# Altium schematic symbol library kmilo17pet-NSC_MiscPower.SchLib: 1552 symbols (part 32 of 43)
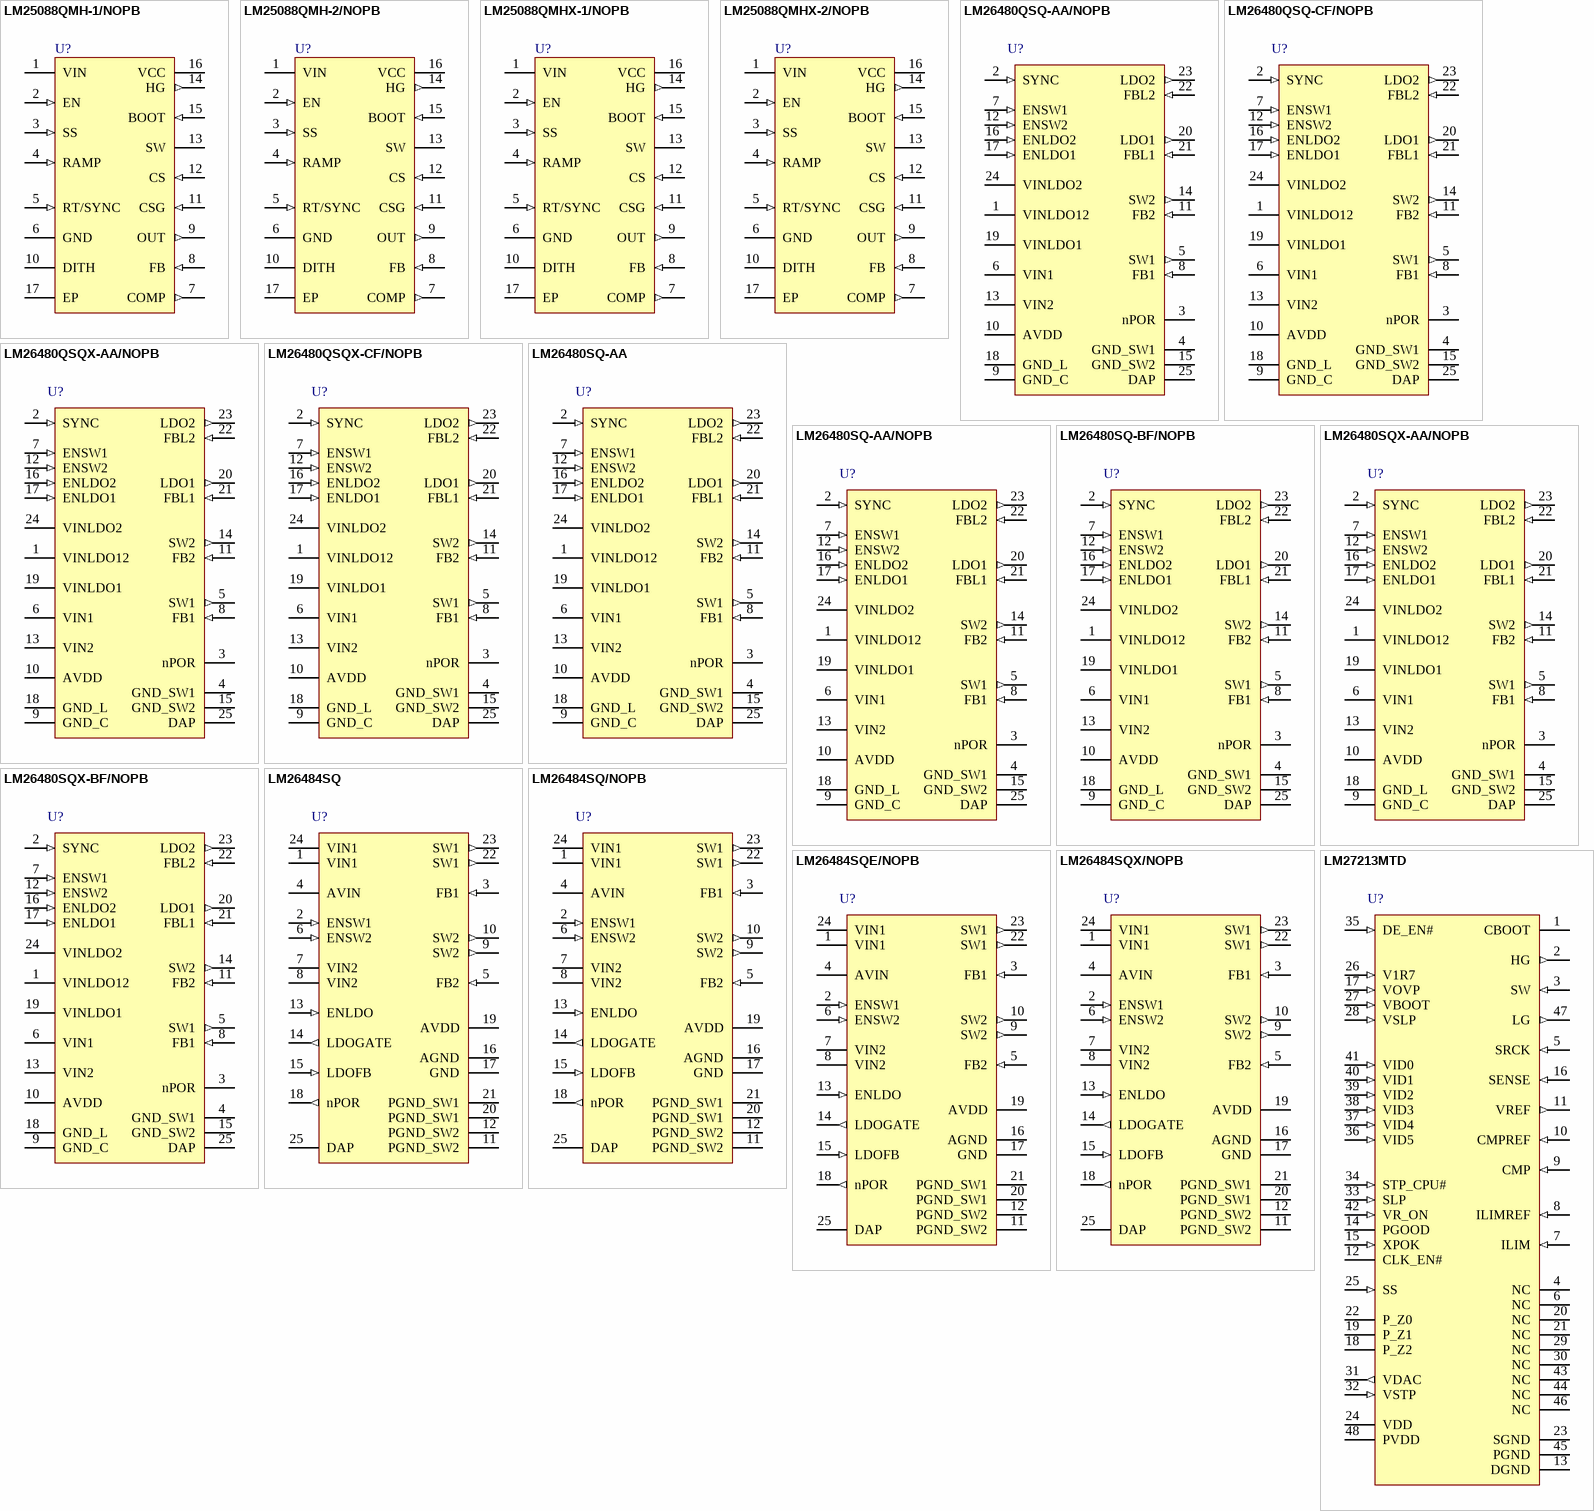
[diagram p88: symbols LM25088QMH-1/NOPB to LM27213MTD]

## LM26480QSQX-CF/NOPB
designator U?
Externally Programmable Dual High-Current Step-Down DC/DC and Dual Linear Regulators, 24-pin LLP, 4500 Reel, Pb-Free; PartNumber: LM26480QSQX-CF/NOPB; Manufacturer: National Semiconductor; PackageTopMarking: NS*UZXYTT*26480CF; PowerWise: N; CompType: MiscPower; High-Reliability: Y; DatasheetVersion: Aug-2011; PackageVersion: revB, Aug-2003; PackageReference: SQA24A; PackageDescription: LLP, Plastic, Quad, 4 x 4 x 0.8mm Body, 24 Lead, 0.5mm Pitch, No Pullback; RoHS: Y; PinCount: 24; Code_JEDEC: MO-220-WGGD-6; ComponentLink1Description: Manufacturer URL; ComponentLink1URL: http://www.national.com/; ComponentLink2Description: LM26480 Datasheet; ComponentLink2URL: http://www.national.com/ds/LM/LM26480.pdf; ComponentLink3Description: LM26480 Web Page; ComponentLink3URL: http://www.national.com/pf/LM/LM26480.html; ComponentLink4Description: SQA24A Package Page; ComponentLink4URL: http://www.national.com/packaging/folders/sqa24a.html
footprint SQA24A (QFN, 24-Leads, Body 4x4mm, Pitch 0.5mm, Thermal Pad 2.7x2.7mm, NSC Recommended)
pins: 1 VINLDO12 (power) "Analog Power for Internal Functions (VREF, BIAS, I2C, Logic)", 2 SYNC (in) "Frequency Synchronization pin.", 3 nPOR (oc) "nPOR Power on reset pin for both Buck1 and Buck 2.", 4 GND_SW1 (power) "Buck1 NMOS Power Ground", 5 SW1 (out) "Buck1 switcher output pin", 6 VIN1 (power) "Power in from either DC source or Battery to Buck1", 7 ENSW1 (in) "Enable Pin for Buck1 switcher, a logic HIGH enables Buck1. Pin cannot be left floating.", 8 FB1 (in) "Buck1 input feedback terminal", 9 GND_C (power) "Non-switching core ground pin", 10 AVDD (power) "Analog Power for Buck converters", 11 FB2 (in) "Buck2 input feedback terminal", 12 ENSW2 (in) "Enable Pin for Buck2 switcher, a logic HIGH enables Buck2. Pin cannot be left floating.", 13 VIN2 (power) "Power in from either DC source or Battery to Buck2", 14 SW2 (out) "Buck2 switcher output pin", 15 GND_SW2 (power) "Buck2 NMOS", 16 ENLDO2 (in) "LDO2 enable pin, a logic HIGH enables LDO2. Pin cannot be left floating.", 17 ENLDO1 (in) "LDO1 enable pin, a logic HIGH enables LDO1. Pin cannot be left floating.", 18 GND_L (power) "LDO ground", 19 VINLDO1 (power) "Power in from either DC source or battery to LDO1", 20 LDO1 (out) "LDO1 Output", 21 FBL1 (in) "LDO1 Feedback Terminal", 22 FBL2 (in) "LDO2 Feedback Terminal", 23 LDO2 (out) "LDO Output", 24 VINLDO2 (power) "Power in from either DC source or battery to LDO2.", 25 DAP (power)

## LM26480SQ-AA
designator U?
Externally Programmable Dual High-Current Step-Down DC/DC and Dual Linear Regulators, 24-pin LLP; PartNumber: LM26480SQ-AA; Manufacturer: National Semiconductor; PackageTopMarking: NS*UZXYTT*26480AA; PowerWise: N; CompType: MiscPower; High-Reliability: Y; DatasheetVersion: Aug-2011; PackageVersion: revB, Aug-2003; PackageReference: SQA24A; PackageDescription: LLP, Plastic, Quad, 4 x 4 x 0.8mm Body, 24 Lead, 0.5mm Pitch, No Pullback; RoHS: Y; PinCount: 24; Code_JEDEC: MO-220-WGGD-6; ComponentLink1Description: Manufacturer URL; ComponentLink1URL: http://www.national.com/; ComponentLink2Description: LM26480 Datasheet; ComponentLink2URL: http://www.national.com/ds/LM/LM26480.pdf; ComponentLink3Description: LM26480 Web Page; ComponentLink3URL: http://www.national.com/pf/LM/LM26480.html; ComponentLink4Description: SQA24A Package Page; ComponentLink4URL: http://www.national.com/packaging/folders/sqa24a.html
footprint SQA24A (QFN, 24-Leads, Body 4x4mm, Pitch 0.5mm, Thermal Pad 2.7x2.7mm, NSC Recommended)
pins: 1 VINLDO12 (power) "Analog Power for Internal Functions (VREF, BIAS, I2C, Logic)", 2 SYNC (in) "Frequency Synchronization pin.", 3 nPOR (oc) "nPOR Power on reset pin for both Buck1 and Buck 2.", 4 GND_SW1 (power) "Buck1 NMOS Power Ground", 5 SW1 (out) "Buck1 switcher output pin", 6 VIN1 (power) "Power in from either DC source or Battery to Buck1", 7 ENSW1 (in) "Enable Pin for Buck1 switcher, a logic HIGH enables Buck1. Pin cannot be left floating.", 8 FB1 (in) "Buck1 input feedback terminal", 9 GND_C (power) "Non-switching core ground pin", 10 AVDD (power) "Analog Power for Buck converters", 11 FB2 (in) "Buck2 input feedback terminal", 12 ENSW2 (in) "Enable Pin for Buck2 switcher, a logic HIGH enables Buck2. Pin cannot be left floating.", 13 VIN2 (power) "Power in from either DC source or Battery to Buck2", 14 SW2 (out) "Buck2 switcher output pin", 15 GND_SW2 (power) "Buck2 NMOS", 16 ENLDO2 (in) "LDO2 enable pin, a logic HIGH enables LDO2. Pin cannot be left floating.", 17 ENLDO1 (in) "LDO1 enable pin, a logic HIGH enables LDO1. Pin cannot be left floating.", 18 GND_L (power) "LDO ground", 19 VINLDO1 (power) "Power in from either DC source or battery to LDO1", 20 LDO1 (out) "LDO1 Output", 21 FBL1 (in) "LDO1 Feedback Terminal", 22 FBL2 (in) "LDO2 Feedback Terminal", 23 LDO2 (out) "LDO Output", 24 VINLDO2 (power) "Power in from either DC source or battery to LDO2.", 25 DAP (power)

## LM26480SQ-AA/NOPB
designator U?
Externally Programmable Dual High-Current Step-Down DC/DC and Dual Linear Regulators, 24-pin LLP, Pb-Free; PartNumber: LM26480SQ-AA/NOPB; Manufacturer: National Semiconductor; PackageTopMarking: NS*UZXYTT*26480AA; PowerWise: N; CompType: MiscPower; High-Reliability: Y; DatasheetVersion: Aug-2011; PackageVersion: revB, Aug-2003; PackageReference: SQA24A; PackageDescription: LLP, Plastic, Quad, 4 x 4 x 0.8mm Body, 24 Lead, 0.5mm Pitch, No Pullback; RoHS: Y; PinCount: 24; Code_JEDEC: MO-220-WGGD-6; ComponentLink1Description: Manufacturer URL; ComponentLink1URL: http://www.national.com/; ComponentLink2Description: LM26480 Datasheet; ComponentLink2URL: http://www.national.com/ds/LM/LM26480.pdf; ComponentLink3Description: LM26480 Web Page; ComponentLink3URL: http://www.national.com/pf/LM/LM26480.html; ComponentLink4Description: SQA24A Package Page; ComponentLink4URL: http://www.national.com/packaging/folders/sqa24a.html
footprint SQA24A (QFN, 24-Leads, Body 4x4mm, Pitch 0.5mm, Thermal Pad 2.7x2.7mm, NSC Recommended)
pins: 1 VINLDO12 (power) "Analog Power for Internal Functions (VREF, BIAS, I2C, Logic)", 2 SYNC (in) "Frequency Synchronization pin.", 3 nPOR (oc) "nPOR Power on reset pin for both Buck1 and Buck 2.", 4 GND_SW1 (power) "Buck1 NMOS Power Ground", 5 SW1 (out) "Buck1 switcher output pin", 6 VIN1 (power) "Power in from either DC source or Battery to Buck1", 7 ENSW1 (in) "Enable Pin for Buck1 switcher, a logic HIGH enables Buck1. Pin cannot be left floating.", 8 FB1 (in) "Buck1 input feedback terminal", 9 GND_C (power) "Non-switching core ground pin", 10 AVDD (power) "Analog Power for Buck converters", 11 FB2 (in) "Buck2 input feedback terminal", 12 ENSW2 (in) "Enable Pin for Buck2 switcher, a logic HIGH enables Buck2. Pin cannot be left floating.", 13 VIN2 (power) "Power in from either DC source or Battery to Buck2", 14 SW2 (out) "Buck2 switcher output pin", 15 GND_SW2 (power) "Buck2 NMOS", 16 ENLDO2 (in) "LDO2 enable pin, a logic HIGH enables LDO2. Pin cannot be left floating.", 17 ENLDO1 (in) "LDO1 enable pin, a logic HIGH enables LDO1. Pin cannot be left floating.", 18 GND_L (power) "LDO ground", 19 VINLDO1 (power) "Power in from either DC source or battery to LDO1", 20 LDO1 (out) "LDO1 Output", 21 FBL1 (in) "LDO1 Feedback Terminal", 22 FBL2 (in) "LDO2 Feedback Terminal", 23 LDO2 (out) "LDO Output", 24 VINLDO2 (power) "Power in from either DC source or battery to LDO2.", 25 DAP (power)

## LM26480SQ-BF/NOPB
designator U?
Externally Programmable Dual High-Current Step-Down DC/DC and Dual Linear Regulators, 24-pin LLP; PartNumber: LM26480SQ-BF/NOPB; Manufacturer: National Semiconductor; PackageTopMarking: NS*UZXYTT*26480BF; PowerWise: N; CompType: MiscPower; High-Reliability: Y; DatasheetVersion: Aug-2011; PackageVersion: revB, Aug-2003; PackageReference: SQA24A; PackageDescription: LLP, Plastic, Quad, 4 x 4 x 0.8mm Body, 24 Lead, 0.5mm Pitch, No Pullback; RoHS: Y; PinCount: 24; Code_JEDEC: MO-220-WGGD-6; ComponentLink1Description: Manufacturer URL; ComponentLink1URL: http://www.national.com/; ComponentLink2Description: LM26480 Datasheet; ComponentLink2URL: http://www.national.com/ds/LM/LM26480.pdf; ComponentLink3Description: LM26480 Web Page; ComponentLink3URL: http://www.national.com/pf/LM/LM26480.html; ComponentLink4Description: SQA24A Package Page; ComponentLink4URL: http://www.national.com/packaging/folders/sqa24a.html
footprint SQA24A (QFN, 24-Leads, Body 4x4mm, Pitch 0.5mm, Thermal Pad 2.7x2.7mm, NSC Recommended)
pins: 1 VINLDO12 (power) "Analog Power for Internal Functions (VREF, BIAS, I2C, Logic)", 2 SYNC (in) "Frequency Synchronization pin.", 3 nPOR (oc) "nPOR Power on reset pin for both Buck1 and Buck 2.", 4 GND_SW1 (power) "Buck1 NMOS Power Ground", 5 SW1 (out) "Buck1 switcher output pin", 6 VIN1 (power) "Power in from either DC source or Battery to Buck1", 7 ENSW1 (in) "Enable Pin for Buck1 switcher, a logic HIGH enables Buck1. Pin cannot be left floating.", 8 FB1 (in) "Buck1 input feedback terminal", 9 GND_C (power) "Non-switching core ground pin", 10 AVDD (power) "Analog Power for Buck converters", 11 FB2 (in) "Buck2 input feedback terminal", 12 ENSW2 (in) "Enable Pin for Buck2 switcher, a logic HIGH enables Buck2. Pin cannot be left floating.", 13 VIN2 (power) "Power in from either DC source or Battery to Buck2", 14 SW2 (out) "Buck2 switcher output pin", 15 GND_SW2 (power) "Buck2 NMOS", 16 ENLDO2 (in) "LDO2 enable pin, a logic HIGH enables LDO2. Pin cannot be left floating.", 17 ENLDO1 (in) "LDO1 enable pin, a logic HIGH enables LDO1. Pin cannot be left floating.", 18 GND_L (power) "LDO ground", 19 VINLDO1 (power) "Power in from either DC source or battery to LDO1", 20 LDO1 (out) "LDO1 Output", 21 FBL1 (in) "LDO1 Feedback Terminal", 22 FBL2 (in) "LDO2 Feedback Terminal", 23 LDO2 (out) "LDO Output", 24 VINLDO2 (power) "Power in from either DC source or battery to LDO2.", 25 DAP (power)

## LM26480SQX-AA/NOPB
designator U?
Externally Programmable Dual High-Current Step-Down DC/DC and Dual Linear Regulators, 24-pin LLP, Pb-Free; PartNumber: LM26480SQX-AA/NOPB; Manufacturer: National Semiconductor; PackageTopMarking: NS*UZXYTT*26480AA; PowerWise: N; CompType: MiscPower; High-Reliability: Y; DatasheetVersion: Aug-2011; PackageVersion: revB, Aug-2003; PackageReference: SQA24A; PackageDescription: LLP, Plastic, Quad, 4 x 4 x 0.8mm Body, 24 Lead, 0.5mm Pitch, No Pullback; RoHS: Y; PinCount: 24; Code_JEDEC: MO-220-WGGD-6; ComponentLink1Description: Manufacturer URL; ComponentLink1URL: http://www.national.com/; ComponentLink2Description: LM26480 Datasheet; ComponentLink2URL: http://www.national.com/ds/LM/LM26480.pdf; ComponentLink3Description: LM26480 Web Page; ComponentLink3URL: http://www.national.com/pf/LM/LM26480.html; ComponentLink4Description: SQA24A Package Page; ComponentLink4URL: http://www.national.com/packaging/folders/sqa24a.html
footprint SQA24A (QFN, 24-Leads, Body 4x4mm, Pitch 0.5mm, Thermal Pad 2.7x2.7mm, NSC Recommended)
pins: 1 VINLDO12 (power) "Analog Power for Internal Functions (VREF, BIAS, I2C, Logic)", 2 SYNC (in) "Frequency Synchronization pin.", 3 nPOR (oc) "nPOR Power on reset pin for both Buck1 and Buck 2.", 4 GND_SW1 (power) "Buck1 NMOS Power Ground", 5 SW1 (out) "Buck1 switcher output pin", 6 VIN1 (power) "Power in from either DC source or Battery to Buck1", 7 ENSW1 (in) "Enable Pin for Buck1 switcher, a logic HIGH enables Buck1. Pin cannot be left floating.", 8 FB1 (in) "Buck1 input feedback terminal", 9 GND_C (power) "Non-switching core ground pin", 10 AVDD (power) "Analog Power for Buck converters", 11 FB2 (in) "Buck2 input feedback terminal", 12 ENSW2 (in) "Enable Pin for Buck2 switcher, a logic HIGH enables Buck2. Pin cannot be left floating.", 13 VIN2 (power) "Power in from either DC source or Battery to Buck2", 14 SW2 (out) "Buck2 switcher output pin", 15 GND_SW2 (power) "Buck2 NMOS", 16 ENLDO2 (in) "LDO2 enable pin, a logic HIGH enables LDO2. Pin cannot be left floating.", 17 ENLDO1 (in) "LDO1 enable pin, a logic HIGH enables LDO1. Pin cannot be left floating.", 18 GND_L (power) "LDO ground", 19 VINLDO1 (power) "Power in from either DC source or battery to LDO1", 20 LDO1 (out) "LDO1 Output", 21 FBL1 (in) "LDO1 Feedback Terminal", 22 FBL2 (in) "LDO2 Feedback Terminal", 23 LDO2 (out) "LDO Output", 24 VINLDO2 (power) "Power in from either DC source or battery to LDO2.", 25 DAP (power)

## LM26480SQX-BF/NOPB
designator U?
Externally Programmable Dual High-Current Step-Down DC/DC and Dual Linear Regulators, 24-pin LLP; PartNumber: LM26480SQX-BF/NOPB; Manufacturer: National Semiconductor; PackageTopMarking: NS*UZXYTT*26480BF; PowerWise: N; CompType: MiscPower; High-Reliability: Y; DatasheetVersion: Aug-2011; PackageVersion: revB, Aug-2003; PackageReference: SQA24A; PackageDescription: LLP, Plastic, Quad, 4 x 4 x 0.8mm Body, 24 Lead, 0.5mm Pitch, No Pullback; RoHS: Y; PinCount: 24; Code_JEDEC: MO-220-WGGD-6; ComponentLink1Description: Manufacturer URL; ComponentLink1URL: http://www.national.com/; ComponentLink2Description: LM26480 Datasheet; ComponentLink2URL: http://www.national.com/ds/LM/LM26480.pdf; ComponentLink3Description: LM26480 Web Page; ComponentLink3URL: http://www.national.com/pf/LM/LM26480.html; ComponentLink4Description: SQA24A Package Page; ComponentLink4URL: http://www.national.com/packaging/folders/sqa24a.html
footprint SQA24A (QFN, 24-Leads, Body 4x4mm, Pitch 0.5mm, Thermal Pad 2.7x2.7mm, NSC Recommended)
pins: 1 VINLDO12 (power) "Analog Power for Internal Functions (VREF, BIAS, I2C, Logic)", 2 SYNC (in) "Frequency Synchronization pin.", 3 nPOR (oc) "nPOR Power on reset pin for both Buck1 and Buck 2.", 4 GND_SW1 (power) "Buck1 NMOS Power Ground", 5 SW1 (out) "Buck1 switcher output pin", 6 VIN1 (power) "Power in from either DC source or Battery to Buck1", 7 ENSW1 (in) "Enable Pin for Buck1 switcher, a logic HIGH enables Buck1. Pin cannot be left floating.", 8 FB1 (in) "Buck1 input feedback terminal", 9 GND_C (power) "Non-switching core ground pin", 10 AVDD (power) "Analog Power for Buck converters", 11 FB2 (in) "Buck2 input feedback terminal", 12 ENSW2 (in) "Enable Pin for Buck2 switcher, a logic HIGH enables Buck2. Pin cannot be left floating.", 13 VIN2 (power) "Power in from either DC source or Battery to Buck2", 14 SW2 (out) "Buck2 switcher output pin", 15 GND_SW2 (power) "Buck2 NMOS", 16 ENLDO2 (in) "LDO2 enable pin, a logic HIGH enables LDO2. Pin cannot be left floating.", 17 ENLDO1 (in) "LDO1 enable pin, a logic HIGH enables LDO1. Pin cannot be left floating.", 18 GND_L (power) "LDO ground", 19 VINLDO1 (power) "Power in from either DC source or battery to LDO1", 20 LDO1 (out) "LDO1 Output", 21 FBL1 (in) "LDO1 Feedback Terminal", 22 FBL2 (in) "LDO2 Feedback Terminal", 23 LDO2 (out) "LDO Output", 24 VINLDO2 (power) "Power in from either DC source or battery to LDO2.", 25 DAP (power)

## LM26484SQ
designator U?
Power Management Unit with Step-Down DC-DC Converters and LDO Controller, 24-pin LLP; PartNumber: LM26484SQ; Manufacturer: National Semiconductor; PackageTopMarking: NS*UZXYTT*26484SQ; PowerWise: N; CompType: MiscPower; High-Reliability: Y; DatasheetVersion: Sep-2009; PackageVersion: revA, Oct-2003; PackageReference: SQA24B; PackageDescription: LLP, Plastic, Quad, 5 x 4 x 0.8mm Body, 24 Lead, 0.5mm Pitch, No Pullback; RoHS: Y; PinCount: 24; Code_JEDEC: MO-220-WGHD-1; ComponentLink1Description: Manufacturer URL; ComponentLink1URL: http://www.national.com/; ComponentLink2Description: LM26484 Datasheet; ComponentLink2URL: http://www.national.com/ds/LM/LM26484.pdf; ComponentLink3Description: LM26484 Web Page; ComponentLink3URL: http://www.national.com/pf/LM/LM26484.html; ComponentLink4Description: SQA24B Package Page; ComponentLink4URL: http://www.national.com/packaging/folders/sqa24b.html
footprint SQA24B (QFN, 24-Leads, Body 5x4mm, Pitch 0.5mm, NSC Recommended)
pins: 1 VIN1 (power), 2 ENSW1 (in), 3 FB1 (in), 4 AVIN (power), 5 FB2 (in), 6 ENSW2 (in), 7 VIN2 (power), 8 VIN2 (power), 9 SW2 (out), 10 SW2 (out), 11 PGND_SW2 (power), 12 PGND_SW2 (power), 13 ENLDO (in), 14 LDOGATE (out), 15 LDOFB (in), 16 AGND (power), 17 GND (power), 18 nPOR (out), 19 AVDD (power), 20 PGND_SW1 (power), 21 PGND_SW1 (power), 22 SW1 (out), 23 SW1 (out), 24 VIN1 (power), 25 DAP (power)

## LM26484SQ/NOPB
designator U?
Power Management Unit, 24-pin LLP, Pb-Free; PartNumber: LM26484SQ/NOPB; Manufacturer: National Semiconductor; PackageTopMarking: NS*UZXYTT*26484SQ; PowerWise: N; CompType: MiscPower; High-Reliability: Y; DatasheetVersion: Sep-2009; PackageVersion: revA, Oct-2003; PackageReference: SQA24B; PackageDescription: LLP, Plastic, Quad, 5 x 4 x 0.8mm Body, 24 Lead, 0.5mm Pitch, No Pullback; RoHS: Y; PinCount: 24; Code_JEDEC: MO-220-WGHD-1; ComponentLink1Description: Manufacturer URL; ComponentLink1URL: http://www.national.com/; ComponentLink2Description: LM26484 Datasheet; ComponentLink2URL: http://www.national.com/ds/LM/LM26484.pdf; ComponentLink3Description: LM26484 Web Page; ComponentLink3URL: http://www.national.com/pf/LM/LM26484.html; ComponentLink4Description: SQA24B Package Page; ComponentLink4URL: http://www.national.com/packaging/folders/sqa24b.html
footprint SQA24B (QFN, 24-Leads, Body 5x4mm, Pitch 0.5mm, NSC Recommended)
pins: 1 VIN1 (power), 2 ENSW1 (in), 3 FB1 (in), 4 AVIN (power), 5 FB2 (in), 6 ENSW2 (in), 7 VIN2 (power), 8 VIN2 (power), 9 SW2 (out), 10 SW2 (out), 11 PGND_SW2 (power), 12 PGND_SW2 (power), 13 ENLDO (in), 14 LDOGATE (out), 15 LDOFB (in), 16 AGND (power), 17 GND (power), 18 nPOR (out), 19 AVDD (power), 20 PGND_SW1 (power), 21 PGND_SW1 (power), 22 SW1 (out), 23 SW1 (out), 24 VIN1 (power), 25 DAP (power)

## LM26484SQE/NOPB
designator U?
Power Management Unit, 24-pin LLP, Pb-Free; PartNumber: LM26484SQE/NOPB; Manufacturer: National Semiconductor; PackageTopMarking: NS*UZXYTT*26484SQ; PowerWise: N; CompType: MiscPower; High-Reliability: Y; DatasheetVersion: Sep-2009; PackageVersion: revA, Oct-2003; PackageReference: SQA24B; PackageDescription: LLP, Plastic, Quad, 5 x 4 x 0.8mm Body, 24 Lead, 0.5mm Pitch, No Pullback; RoHS: Y; PinCount: 24; Code_JEDEC: MO-220-WGHD-1; ComponentLink1Description: Manufacturer URL; ComponentLink1URL: http://www.national.com/; ComponentLink2Description: LM26484 Datasheet; ComponentLink2URL: http://www.national.com/ds/LM/LM26484.pdf; ComponentLink3Description: LM26484 Web Page; ComponentLink3URL: http://www.national.com/pf/LM/LM26484.html; ComponentLink4Description: SQA24B Package Page; ComponentLink4URL: http://www.national.com/packaging/folders/sqa24b.html
footprint SQA24B (QFN, 24-Leads, Body 5x4mm, Pitch 0.5mm, NSC Recommended)
pins: 1 VIN1 (power), 2 ENSW1 (in), 3 FB1 (in), 4 AVIN (power), 5 FB2 (in), 6 ENSW2 (in), 7 VIN2 (power), 8 VIN2 (power), 9 SW2 (out), 10 SW2 (out), 11 PGND_SW2 (power), 12 PGND_SW2 (power), 13 ENLDO (in), 14 LDOGATE (out), 15 LDOFB (in), 16 AGND (power), 17 GND (power), 18 nPOR (out), 19 AVDD (power), 20 PGND_SW1 (power), 21 PGND_SW1 (power), 22 SW1 (out), 23 SW1 (out), 24 VIN1 (power), 25 DAP (power)

## LM26484SQX/NOPB
designator U?
Power Management Unit, 24-pin LLP, Pb-Free; PartNumber: LM26484SQX/NOPB; Manufacturer: National Semiconductor; PackageTopMarking: NS*UZXYTT*26484SQ; PowerWise: N; CompType: MiscPower; High-Reliability: Y; DatasheetVersion: Sep-2009; PackageVersion: revA, Oct-2003; PackageReference: SQA24B; PackageDescription: LLP, Plastic, Quad, 5 x 4 x 0.8mm Body, 24 Lead, 0.5mm Pitch, No Pullback; RoHS: Y; PinCount: 24; Code_JEDEC: MO-220-WGHD-1; ComponentLink1Description: Manufacturer URL; ComponentLink1URL: http://www.national.com/; ComponentLink2Description: LM26484 Datasheet; ComponentLink2URL: http://www.national.com/ds/LM/LM26484.pdf; ComponentLink3Description: LM26484 Web Page; ComponentLink3URL: http://www.national.com/pf/LM/LM26484.html; ComponentLink4Description: SQA24B Package Page; ComponentLink4URL: http://www.national.com/packaging/folders/sqa24b.html
footprint SQA24B (QFN, 24-Leads, Body 5x4mm, Pitch 0.5mm, NSC Recommended)
pins: 1 VIN1 (power), 2 ENSW1 (in), 3 FB1 (in), 4 AVIN (power), 5 FB2 (in), 6 ENSW2 (in), 7 VIN2 (power), 8 VIN2 (power), 9 SW2 (out), 10 SW2 (out), 11 PGND_SW2 (power), 12 PGND_SW2 (power), 13 ENLDO (in), 14 LDOGATE (out), 15 LDOFB (in), 16 AGND (power), 17 GND (power), 18 nPOR (out), 19 AVDD (power), 20 PGND_SW1 (power), 21 PGND_SW1 (power), 22 SW1 (out), 23 SW1 (out), 24 VIN1 (power), 25 DAP (power)

## LM27213MTD
designator U?
Single Phase Hysteretic Buck Controller, 48-pin TSSOP; PartNumber: LM27213MTD; Manufacturer: National Semiconductor; PackageTopMarking: NSUZXYTTE#*27213MTD; PowerWise: N; CompType: MiscPower; High-Reliability: Y; DatasheetVersion: Feb-2006; PackageVersion: revE, Apr-2003; PackageReference: MTD48; PackageDescription: Molded TSSOP, Jedec, 12.5 x 6.1 x 0.9mm Body, 48 Lead, 0.50mm Pitch; RoHS: N; PinCount: 48; Code_JEDEC: MO-153-ED; ComponentLink1Description: Manufacturer URL; ComponentLink1URL: http://www.national.com/; ComponentLink2Description: LM27213 Datasheet; ComponentLink2URL: http://www.national.com/ds/LM/LM27213.pdf; ComponentLink3Description: LM27213 Web Page; ComponentLink3URL: http://www.national.com/pf/LM/LM27213.html; ComponentLink4Description: MTD48 Package Page; ComponentLink4URL: http://www.national.com/packaging/folders/mtd48.html
footprint MTD48_N (TSSOP, 48-Leads, Body 12.5x6.1mm, Pitch 0.5mm, IPC Medium Density)
footprint MTD48_L (TSSOP, 48-Leads, Body 12.5x6.1mm, Pitch 0.5mm, IPC High Density)
footprint MTD48_M (TSSOP, 48-Leads, Body 12.5x6.1mm, Pitch 0.5mm, IPC Low Density)
pins: 1 CBOOT, 2 HG (out), 3 SW (in), 4 NC, 5 SRCK (in), 6 NC, 7 ILIM (in), 8 ILIMREF (in), 9 CMP (in), 10 CMPREF (in), 11 VREF (out), 12 CLK_EN# (oc), 13 DGND (power), 14 PGOOD (oc), 15 XPOK (in), 16 SENSE (in), 17 VOVP (in), 18 P_Z2, 19 P_Z1, 20 NC, 21 NC, 22 P_Z0, 23 SGND (power), 24 VDD (power), 25 SS (in), 26 V1R7 (in), 27 VBOOT (in), 28 VSLP (in), 29 NC, 30 NC, 31 VDAC (out), 32 VSTP (in), 33 SLP (in), 34 STP_CPU# (in), 35 DE_EN# (in), 36 VID5 (in), 37 VID4 (in), 38 VID3 (in), 39 VID2 (in), 40 VID1 (in), 41 VID0 (in), 42 VR_ON (in), 43 NC, 44 NC, 45 PGND (power), 46 NC, 47 LG (out), 48 PVDD (power)

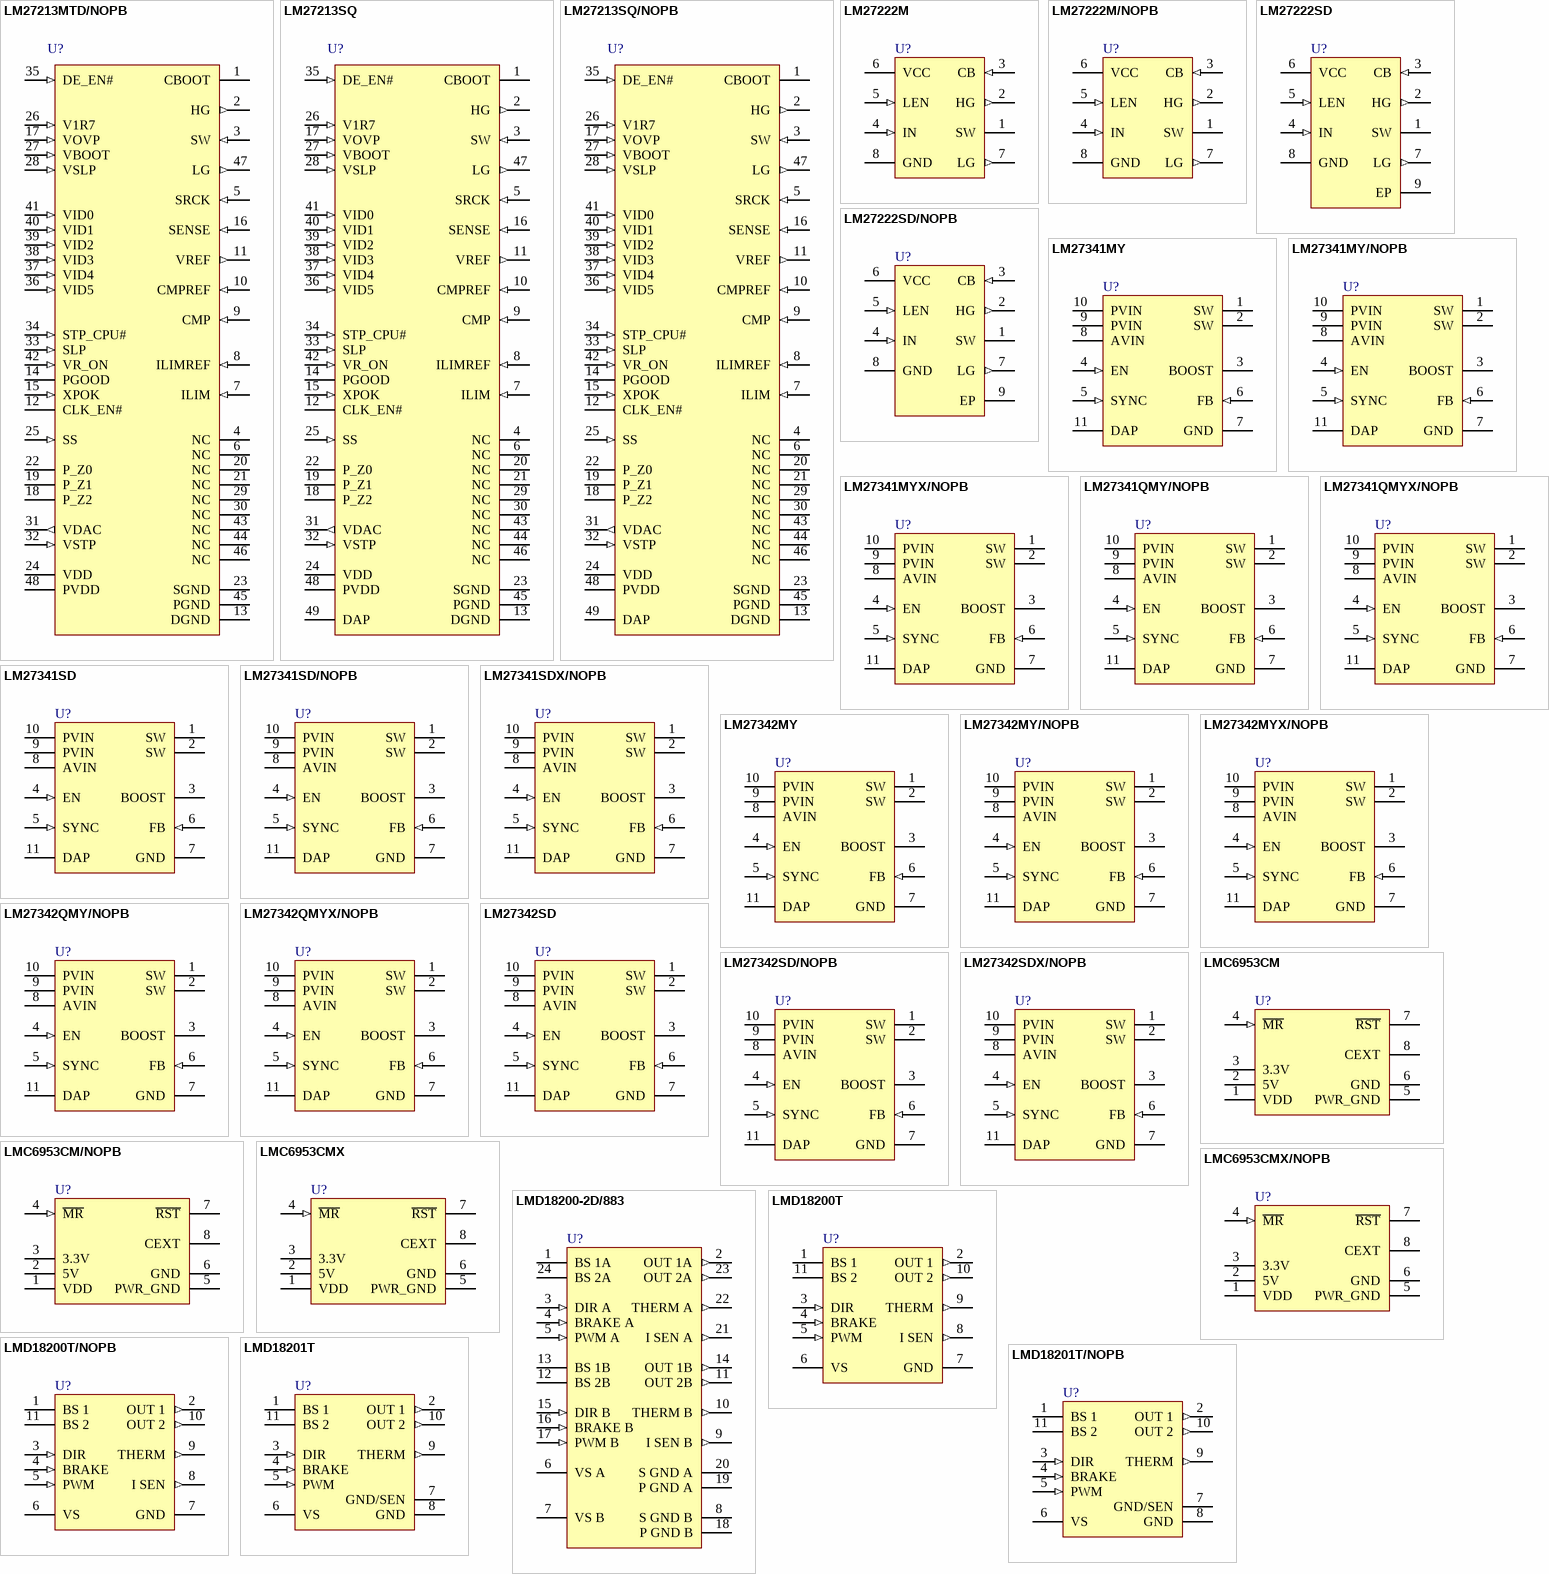
[diagram p36: symbols LM27213MTD/NOPB to LMD18201T/NOPB]

## LM27213MTD/NOPB
designator U?
Single Phase Hysteretic Buck Controller, 48-pin TSSOP, Pb-Free; PartNumber: LM27213MTD/NOPB; Manufacturer: National Semiconductor; PackageTopMarking: NSUZXYTTE#*27213MTD; PowerWise: N; CompType: MiscPower; High-Reliability: Y; DatasheetVersion: Feb-2006; PackageVersion: revE, Apr-2003; PackageReference: MTD48; PackageDescription: Molded TSSOP, Jedec, 12.5 x 6.1 x 0.9mm Body, 48 Lead, 0.50mm Pitch; RoHS: Y; PinCount: 48; Code_JEDEC: MO-153-ED; ComponentLink1Description: Manufacturer URL; ComponentLink1URL: http://www.national.com/; ComponentLink2Description: LM27213 Datasheet; ComponentLink2URL: http://www.national.com/ds/LM/LM27213.pdf; ComponentLink3Description: LM27213 Web Page; ComponentLink3URL: http://www.national.com/pf/LM/LM27213.html; ComponentLink4Description: MTD48 Package Page; ComponentLink4URL: http://www.national.com/packaging/folders/mtd48.html
footprint MTD48_N (TSSOP, 48-Leads, Body 12.5x6.1mm, Pitch 0.5mm, IPC Medium Density)
footprint MTD48_L (TSSOP, 48-Leads, Body 12.5x6.1mm, Pitch 0.5mm, IPC High Density)
footprint MTD48_M (TSSOP, 48-Leads, Body 12.5x6.1mm, Pitch 0.5mm, IPC Low Density)
pins: 1 CBOOT, 2 HG (out), 3 SW (in), 4 NC, 5 SRCK (in), 6 NC, 7 ILIM (in), 8 ILIMREF (in), 9 CMP (in), 10 CMPREF (in), 11 VREF (out), 12 CLK_EN# (oc), 13 DGND (power), 14 PGOOD (oc), 15 XPOK (in), 16 SENSE (in), 17 VOVP (in), 18 P_Z2, 19 P_Z1, 20 NC, 21 NC, 22 P_Z0, 23 SGND (power), 24 VDD (power), 25 SS (in), 26 V1R7 (in), 27 VBOOT (in), 28 VSLP (in), 29 NC, 30 NC, 31 VDAC (out), 32 VSTP (in), 33 SLP (in), 34 STP_CPU# (in), 35 DE_EN# (in), 36 VID5 (in), 37 VID4 (in), 38 VID3 (in), 39 VID2 (in), 40 VID1 (in), 41 VID0 (in), 42 VR_ON (in), 43 NC, 44 NC, 45 PGND (power), 46 NC, 47 LG (out), 48 PVDD (power)

## LM27213SQ
designator U?
Single Phase Hysteretic Buck Controller, 48-pin LLP; PartNumber: LM27213SQ; Manufacturer: National Semiconductor; PackageTopMarking: NS*UZXYTTE#*27213SQ; PowerWise: N; CompType: MiscPower; High-Reliability: Y; DatasheetVersion: Feb-2006; PackageVersion: revB, May-2009; PackageReference: SQA48A; PackageDescription: LLP, Plastic, Quad, 7 x 7 x 0.8mm Body, 48 Lead, 0.5mm Pitch, No Pullback; RoHS: N; PinCount: 48; Code_JEDEC: MO-220-WKKD-2; ComponentLink1Description: Manufacturer URL; ComponentLink1URL: http://www.national.com/; ComponentLink2Description: LM27213 Datasheet; ComponentLink2URL: http://www.national.com/ds/LM/LM27213.pdf; ComponentLink3Description: LM27213 Web Page; ComponentLink3URL: http://www.national.com/pf/LM/LM27213.html; ComponentLink4Description: SQA48A Package Page; ComponentLink4URL: http://www.national.com/packaging/folders/sqa48a.html
footprint SQA48A (QFN, 48-Leads, Body 7x7mm, Pitch 0.5mm, Thermal Pad 5.2x5.2mm, NSC Recommended)
pins: 1 CBOOT, 2 HG (out), 3 SW (in), 4 NC, 5 SRCK (in), 6 NC, 7 ILIM (in), 8 ILIMREF (in), 9 CMP (in), 10 CMPREF (in), 11 VREF (out), 12 CLK_EN# (oc), 13 DGND (power), 14 PGOOD (oc), 15 XPOK (in), 16 SENSE (in), 17 VOVP (in), 18 P_Z2, 19 P_Z1, 20 NC, 21 NC, 22 P_Z0, 23 SGND (power), 24 VDD (power), 25 SS (in), 26 V1R7 (in), 27 VBOOT (in), 28 VSLP (in), 29 NC, 30 NC, 31 VDAC (out), 32 VSTP (in), 33 SLP (in), 34 STP_CPU# (in), 35 DE_EN# (in), 36 VID5 (in), 37 VID4 (in), 38 VID3 (in), 39 VID2 (in), 40 VID1 (in), 41 VID0 (in), 42 VR_ON (in), 43 NC, 44 NC, 45 PGND (power), 46 NC, 47 LG (out), 48 PVDD (power), 49 DAP (power)

## LM27213SQ/NOPB
designator U?
Single Phase Hysteretic Buck Controller, 48-pin LLP, Pb-Free; PartNumber: LM27213SQ/NOPB; Manufacturer: National Semiconductor; PackageTopMarking: NS*UZXYTTE#*27213SQ; PowerWise: N; CompType: MiscPower; High-Reliability: Y; DatasheetVersion: Feb-2006; PackageVersion: revB, May-2009; PackageReference: SQA48A; PackageDescription: LLP, Plastic, Quad, 7 x 7 x 0.8mm Body, 48 Lead, 0.5mm Pitch, No Pullback; RoHS: Y; PinCount: 48; Code_JEDEC: MO-220-WKKD-2; ComponentLink1Description: Manufacturer URL; ComponentLink1URL: http://www.national.com/; ComponentLink2Description: LM27213 Datasheet; ComponentLink2URL: http://www.national.com/ds/LM/LM27213.pdf; ComponentLink3Description: LM27213 Web Page; ComponentLink3URL: http://www.national.com/pf/LM/LM27213.html; ComponentLink4Description: SQA48A Package Page; ComponentLink4URL: http://www.national.com/packaging/folders/sqa48a.html
footprint SQA48A (QFN, 48-Leads, Body 7x7mm, Pitch 0.5mm, Thermal Pad 5.2x5.2mm, NSC Recommended)
pins: 1 CBOOT, 2 HG (out), 3 SW (in), 4 NC, 5 SRCK (in), 6 NC, 7 ILIM (in), 8 ILIMREF (in), 9 CMP (in), 10 CMPREF (in), 11 VREF (out), 12 CLK_EN# (oc), 13 DGND (power), 14 PGOOD (oc), 15 XPOK (in), 16 SENSE (in), 17 VOVP (in), 18 P_Z2, 19 P_Z1, 20 NC, 21 NC, 22 P_Z0, 23 SGND (power), 24 VDD (power), 25 SS (in), 26 V1R7 (in), 27 VBOOT (in), 28 VSLP (in), 29 NC, 30 NC, 31 VDAC (out), 32 VSTP (in), 33 SLP (in), 34 STP_CPU# (in), 35 DE_EN# (in), 36 VID5 (in), 37 VID4 (in), 38 VID3 (in), 39 VID2 (in), 40 VID1 (in), 41 VID0 (in), 42 VR_ON (in), 43 NC, 44 NC, 45 PGND (power), 46 NC, 47 LG (out), 48 PVDD (power), 49 DAP (power)

## LM27222M
designator U?
High-Speed 4.5A Synchronous MOSFET Driver, 8-pin Narrow SOIC; PartNumber: LM27222M; Manufacturer: National Semiconductor; PackageTopMarking: NSZXTT*27222*M; PowerWise: N; CompType: MiscPower; High-Reliability: Y; DatasheetVersion: Mar-2006; PackageVersion: revM, May-2009; PackageReference: M08A; PackageDescription: SOIC Narrow, 4.9 x 3.9 x 1.45mm, 8 Lead, 1.27mm Pitch; RoHS: N; PinCount: 8; Code_JEDEC: MS-012-AA; Code_IPC: SOIC127P600-8; ComponentLink1Description: Manufacturer URL; ComponentLink1URL: http://www.national.com/; ComponentLink2Description: LM27222 Datasheet; ComponentLink2URL: http://www.national.com/ds/LM/LM27222.pdf; ComponentLink3Description: LM27222 Web Page; ComponentLink3URL: http://www.national.com/pf/LM/LM27222.html; ComponentLink4Description: M08A Package Page; ComponentLink4URL: http://www.national.com/packaging/folders/m08a.html
footprint M08A_N (SOIC, 8-Leads, Body 4.9x3.9mm, Pitch 1.27mm, IPC Medium Density)
footprint M08A_L (SOIC, 8-Leads, Body 4.9x3.9mm, Pitch 1.27mm, IPC High Density)
footprint M08A_M (SOIC, 8-Leads, Body 4.9x3.9mm, Pitch 1.27mm, IPC Low Density)
pins: 1 SW (power), 2 HG (out), 3 CB (in), 4 IN (in), 5 LEN (in), 6 VCC (power), 7 LG (out), 8 GND (power)

## LM27222M/NOPB
designator U?
High-Speed 4.5A Synchronous MOSFET Driver, 8-pin Narrow SOIC, Pb-Free; PartNumber: LM27222M/NOPB; Manufacturer: National Semiconductor; PackageTopMarking: NSZXTT*27222*M; PowerWise: N; CompType: MiscPower; High-Reliability: Y; DatasheetVersion: Mar-2006; PackageVersion: revM, May-2009; PackageReference: M08A; PackageDescription: SOIC Narrow, 4.9 x 3.9 x 1.45mm, 8 Lead, 1.27mm Pitch; RoHS: Y; PinCount: 8; Code_JEDEC: MS-012-AA; Code_IPC: SOIC127P600-8; ComponentLink1Description: Manufacturer URL; ComponentLink1URL: http://www.national.com/; ComponentLink2Description: LM27222 Datasheet; ComponentLink2URL: http://www.national.com/ds/LM/LM27222.pdf; ComponentLink3Description: LM27222 Web Page; ComponentLink3URL: http://www.national.com/pf/LM/LM27222.html; ComponentLink4Description: M08A Package Page; ComponentLink4URL: http://www.national.com/packaging/folders/m08a.html
footprint M08A_N (SOIC, 8-Leads, Body 4.9x3.9mm, Pitch 1.27mm, IPC Medium Density)
footprint M08A_L (SOIC, 8-Leads, Body 4.9x3.9mm, Pitch 1.27mm, IPC High Density)
footprint M08A_M (SOIC, 8-Leads, Body 4.9x3.9mm, Pitch 1.27mm, IPC Low Density)
pins: 1 SW (power), 2 HG (out), 3 CB (in), 4 IN (in), 5 LEN (in), 6 VCC (power), 7 LG (out), 8 GND (power)

## LM27222SD
designator U?
High-Speed 4.5A Synchronous MOSFET Driver, 8-pin LLP; PartNumber: LM27222SD; Manufacturer: National Semiconductor; PackageTopMarking: NS*UZXYTT*L27222S; PowerWise: N; CompType: MiscPower; High-Reliability: Y; DatasheetVersion: Mar-2006; PackageVersion: revA, Jun-2003; PackageReference: SDC08A; PackageDescription: LLP, Plastic, Dual, 4 x 4 x 0.8mm Body, 8 Lead, 0.8mm Pitch, No Pullback; RoHS: N; PinCount: 8; ComponentLink1Description: Manufacturer URL; ComponentLink1URL: http://www.national.com/; ComponentLink2Description: LM27222 Datasheet; ComponentLink2URL: http://www.national.com/ds/LM/LM27222.pdf; ComponentLink3Description: LM27222 Web Page; ComponentLink3URL: http://www.national.com/pf/LM/LM27222.html; ComponentLink4Description: SDC08A Package Page; ComponentLink4URL: http://www.national.com/packaging/folders/sdc08a.html
footprint SDC08A (SON, 8-Leads, Body 4x4mm, Pitch 0.8mm, NSC Recommended)
pins: 1 SW (power), 2 HG (out), 3 CB (in), 4 IN (in), 5 LEN (in), 6 VCC (power), 7 LG (out), 8 GND (power), 9 EP (power)

## LM27222SD/NOPB
designator U?
High-Speed 4.5A Synchronous MOSFET Driver, 8-pin LLP, Pb-Free; PartNumber: LM27222SD/NOPB; Manufacturer: National Semiconductor; PackageTopMarking: NS*UZXYTT*L27222S; PowerWise: N; CompType: MiscPower; High-Reliability: Y; DatasheetVersion: Mar-2006; PackageVersion: revA, Jun-2003; PackageReference: SDC08A; PackageDescription: LLP, Plastic, Dual, 4 x 4 x 0.8mm Body, 8 Lead, 0.8mm Pitch, No Pullback; RoHS: Y; PinCount: 8; ComponentLink1Description: Manufacturer URL; ComponentLink1URL: http://www.national.com/; ComponentLink2Description: LM27222 Datasheet; ComponentLink2URL: http://www.national.com/ds/LM/LM27222.pdf; ComponentLink3Description: LM27222 Web Page; ComponentLink3URL: http://www.national.com/pf/LM/LM27222.html; ComponentLink4Description: SDC08A Package Page; ComponentLink4URL: http://www.national.com/packaging/folders/sdc08a.html
footprint SDC08A (SON, 8-Leads, Body 4x4mm, Pitch 0.8mm, NSC Recommended)
pins: 1 SW (power), 2 HG (out), 3 CB (in), 4 IN (in), 5 LEN (in), 6 VCC (power), 7 LG (out), 8 GND (power), 9 EP (power)

## LM27341MY
designator U?
2MHz 1.5A - Wide Input Range Buck Regulator with Frequency Synchronization, 10-pin eMSOP; PartNumber: LM27341MY; Manufacturer: National Semiconductor; PackageTopMarking: ZXTT*SSCB; PowerWise: N; CompType: MiscPower; High-Reliability: Y; DatasheetVersion: Feb-2010; PackageVersion: revA, May-2006; PackageReference: MUC10A; PackageDescription: Molded Mini-SO, Exposed Pad .118 x .118 x .034in Body, 10 Lead, .0197in Pitch; RoHS: Y; PinCount: 10; Code_JEDEC: MO-187-BAT; ComponentLink1Description: Manufacturer URL; ComponentLink1URL: http://www.national.com/; ComponentLink2Description: LM27341 Datasheet; ComponentLink2URL: http://www.national.com/ds/LM/LM27341.pdf; ComponentLink3Description: LM27341 Web Page; ComponentLink3URL: http://www.national.com/pf/LM/LM27341.html; ComponentLink4Description: MUC10A Package Page; ComponentLink4URL: http://www.national.com/packaging/folders/muc10a.html
footprint MUC10A_N (TSSOP, 10-Leads, Body 3x3mm, Pitch 0.5mm, Exposed Pad, IPC Medium Density)
footprint MUC10A_L (TSSOP, 10-Leads, Body 3x3mm, Pitch 0.5mm, Exposed Pad, IPC High Density)
footprint MUC10A_M (TSSOP, 10-Leads, Body 3x3mm, Pitch 0.5mm, Exposed Pad, IPC Low Density)
pins: 1 SW (power), 2 SW (power), 3 BOOST, 4 EN (in), 5 SYNC (in), 6 FB (in), 7 GND (power), 8 AVIN (power), 9 PVIN (power), 10 PVIN (power), 11 DAP (power)

## LM27341MY/NOPB
designator U?
1.5A - Wide Input Range Buck Regulator with Frequency Synchronization, 10-pin eMSOP, Pb-Free; PartNumber: LM27341MY/NOPB; Manufacturer: National Semiconductor; PackageTopMarking: ZXTT*SSCB; PowerWise: N; CompType: MiscPower; High-Reliability: Y; DatasheetVersion: Feb-2010; PackageVersion: revA, May-2006; PackageReference: MUC10A; PackageDescription: Molded Mini-SO, Exposed Pad .118 x .118 x .034in Body, 10 Lead, .0197in Pitch; RoHS: Y; PinCount: 10; Code_JEDEC: MO-187-BAT; ComponentLink1Description: Manufacturer URL; ComponentLink1URL: http://www.national.com/; ComponentLink2Description: LM27341 Datasheet; ComponentLink2URL: http://www.national.com/ds/LM/LM27341.pdf; ComponentLink3Description: LM27341 Web Page; ComponentLink3URL: http://www.national.com/pf/LM/LM27341.html; ComponentLink4Description: MUC10A Package Page; ComponentLink4URL: http://www.national.com/packaging/folders/muc10a.html
footprint MUC10A_N (TSSOP, 10-Leads, Body 3x3mm, Pitch 0.5mm, Exposed Pad, IPC Medium Density)
footprint MUC10A_L (TSSOP, 10-Leads, Body 3x3mm, Pitch 0.5mm, Exposed Pad, IPC High Density)
footprint MUC10A_M (TSSOP, 10-Leads, Body 3x3mm, Pitch 0.5mm, Exposed Pad, IPC Low Density)
pins: 1 SW (power), 2 SW (power), 3 BOOST, 4 EN (in), 5 SYNC (in), 6 FB (in), 7 GND (power), 8 AVIN (power), 9 PVIN (power), 10 PVIN (power), 11 DAP (power)

## LM27341MYX/NOPB
designator U?
1.5A - Wide Input Range Buck Regulator with Frequency Synchronization, 10-pin eMSOP, Pb-Free; PartNumber: LM27341MYX/NOPB; Manufacturer: National Semiconductor; PackageTopMarking: ZXTT*SSCB; PowerWise: N; CompType: MiscPower; High-Reliability: Y; DatasheetVersion: Feb-2010; PackageVersion: revA, May-2006; PackageReference: MUC10A; PackageDescription: Molded Mini-SO, Exposed Pad .118 x .118 x .034in Body, 10 Lead, .0197in Pitch; RoHS: Y; PinCount: 10; Code_JEDEC: MO-187-BAT; ComponentLink1Description: Manufacturer URL; ComponentLink1URL: http://www.national.com/; ComponentLink2Description: LM27341 Datasheet; ComponentLink2URL: http://www.national.com/ds/LM/LM27341.pdf; ComponentLink3Description: LM27341 Web Page; ComponentLink3URL: http://www.national.com/pf/LM/LM27341.html; ComponentLink4Description: MUC10A Package Page; ComponentLink4URL: http://www.national.com/packaging/folders/muc10a.html
footprint MUC10A_N (TSSOP, 10-Leads, Body 3x3mm, Pitch 0.5mm, Exposed Pad, IPC Medium Density)
footprint MUC10A_L (TSSOP, 10-Leads, Body 3x3mm, Pitch 0.5mm, Exposed Pad, IPC High Density)
footprint MUC10A_M (TSSOP, 10-Leads, Body 3x3mm, Pitch 0.5mm, Exposed Pad, IPC Low Density)
pins: 1 SW (power), 2 SW (power), 3 BOOST, 4 EN (in), 5 SYNC (in), 6 FB (in), 7 GND (power), 8 AVIN (power), 9 PVIN (power), 10 PVIN (power), 11 DAP (power)

## LM27341QMY/NOPB
designator U?
1.5A - Wide Input Range Buck Regulator with Frequency Synchronization, 10-pin eMSOP, Pb-Free; PartNumber: LM27341QMY/NOPB; Manufacturer: National Semiconductor; PackageTopMarking: ZXTT*SSJB; PowerWise: N; CompType: MiscPower; High-Reliability: Y; DatasheetVersion: Feb-2010; PackageVersion: revA, May-2006; PackageReference: MUC10A; PackageDescription: Molded Mini-SO, Exposed Pad .118 x .118 x .034in Body, 10 Lead, .0197in Pitch; RoHS: Y; PinCount: 10; Code_JEDEC: MO-187-BAT; ComponentLink1Description: Manufacturer URL; ComponentLink1URL: http://www.national.com/; ComponentLink2Description: LM27341 Datasheet; ComponentLink2URL: http://www.national.com/ds/LM/LM27341.pdf; ComponentLink3Description: LM27341 Web Page; ComponentLink3URL: http://www.national.com/pf/LM/LM27341.html; ComponentLink4Description: MUC10A Package Page; ComponentLink4URL: http://www.national.com/packaging/folders/muc10a.html
footprint MUC10A_N (TSSOP, 10-Leads, Body 3x3mm, Pitch 0.5mm, Exposed Pad, IPC Medium Density)
footprint MUC10A_L (TSSOP, 10-Leads, Body 3x3mm, Pitch 0.5mm, Exposed Pad, IPC High Density)
footprint MUC10A_M (TSSOP, 10-Leads, Body 3x3mm, Pitch 0.5mm, Exposed Pad, IPC Low Density)
pins: 1 SW (power), 2 SW (power), 3 BOOST, 4 EN (in), 5 SYNC (in), 6 FB (in), 7 GND (power), 8 AVIN (power), 9 PVIN (power), 10 PVIN (power), 11 DAP (power)

## LM27341QMYX/NOPB
designator U?
1.5A - Wide Input Range Buck Regulator with Frequency Synchronization, 10-pin eMSOP, Pb-Free; PartNumber: LM27341QMYX/NOPB; Manufacturer: National Semiconductor; PackageTopMarking: ZXTT*SSJB; PowerWise: N; CompType: MiscPower; High-Reliability: Y; DatasheetVersion: Feb-2010; PackageVersion: revA, May-2006; PackageReference: MUC10A; PackageDescription: Molded Mini-SO, Exposed Pad .118 x .118 x .034in Body, 10 Lead, .0197in Pitch; RoHS: Y; PinCount: 10; Code_JEDEC: MO-187-BAT; ComponentLink1Description: Manufacturer URL; ComponentLink1URL: http://www.national.com/; ComponentLink2Description: LM27341 Datasheet; ComponentLink2URL: http://www.national.com/ds/LM/LM27341.pdf; ComponentLink3Description: LM27341 Web Page; ComponentLink3URL: http://www.national.com/pf/LM/LM27341.html; ComponentLink4Description: MUC10A Package Page; ComponentLink4URL: http://www.national.com/packaging/folders/muc10a.html
footprint MUC10A_N (TSSOP, 10-Leads, Body 3x3mm, Pitch 0.5mm, Exposed Pad, IPC Medium Density)
footprint MUC10A_L (TSSOP, 10-Leads, Body 3x3mm, Pitch 0.5mm, Exposed Pad, IPC High Density)
footprint MUC10A_M (TSSOP, 10-Leads, Body 3x3mm, Pitch 0.5mm, Exposed Pad, IPC Low Density)
pins: 1 SW (power), 2 SW (power), 3 BOOST, 4 EN (in), 5 SYNC (in), 6 FB (in), 7 GND (power), 8 AVIN (power), 9 PVIN (power), 10 PVIN (power), 11 DAP (power)

## LM27341SD
designator U?
2MHz 1.5A - Wide Input Range Buck Regulator with Frequency Synchronization, 10-pin LLP; PartNumber: LM27341SD; Manufacturer: National Semiconductor; PackageTopMarking: ZXYTT*L231B; PowerWise: N; CompType: MiscPower; High-Reliability: Y; DatasheetVersion: Feb-2010; PackageVersion: revA, Oct-2003; PackageReference: SDA10A; PackageDescription: LLP, Plastic, Dual, 3 x 3 x 0.8mm Body, 10 Lead, 0.5mm Pitch, No Pullback; RoHS: Y; PinCount: 10; ComponentLink1Description: Manufacturer URL; ComponentLink1URL: http://www.national.com/; ComponentLink2Description: LM27341 Datasheet; ComponentLink2URL: http://www.national.com/ds/LM/LM27341.pdf; ComponentLink3Description: LM27341 Web Page; ComponentLink3URL: http://www.national.com/pf/LM/LM27341.html; ComponentLink4Description: SDA10A Package Page; ComponentLink4URL: http://www.national.com/packaging/folders/sda10a.html
footprint SDA10A (SON, 10-Leads, Body 3x3 mm, Pitch 0.5mm, NSC Recommended)
pins: 1 SW (power), 2 SW (power), 3 BOOST, 4 EN (in), 5 SYNC (in), 6 FB (in), 7 GND (power), 8 AVIN (power), 9 PVIN (power), 10 PVIN (power), 11 DAP (power)

## LM27341SD/NOPB
designator U?
1.5A - Wide Input Range Buck Regulator with Frequency Synchronization, 10-pin LLP, Pb-Free; PartNumber: LM27341SD/NOPB; Manufacturer: National Semiconductor; PackageTopMarking: ZXYTT*L231B; PowerWise: N; CompType: MiscPower; High-Reliability: Y; DatasheetVersion: Feb-2010; PackageVersion: revA, Oct-2003; PackageReference: SDA10A; PackageDescription: LLP, Plastic, Dual, 3 x 3 x 0.8mm Body, 10 Lead, 0.5mm Pitch, No Pullback; RoHS: Y; PinCount: 10; ComponentLink1Description: Manufacturer URL; ComponentLink1URL: http://www.national.com/; ComponentLink2Description: LM27341 Datasheet; ComponentLink2URL: http://www.national.com/ds/LM/LM27341.pdf; ComponentLink3Description: LM27341 Web Page; ComponentLink3URL: http://www.national.com/pf/LM/LM27341.html; ComponentLink4Description: SDA10A Package Page; ComponentLink4URL: http://www.national.com/packaging/folders/sda10a.html
footprint SDA10A (SON, 10-Leads, Body 3x3 mm, Pitch 0.5mm, NSC Recommended)
pins: 1 SW (power), 2 SW (power), 3 BOOST, 4 EN (in), 5 SYNC (in), 6 FB (in), 7 GND (power), 8 AVIN (power), 9 PVIN (power), 10 PVIN (power), 11 DAP (power)

## LM27341SDX/NOPB
designator U?
1.5A - Wide Input Range Buck Regulator with Frequency Synchronization, 10-pin LLP, Pb-Free; PartNumber: LM27341SDX/NOPB; Manufacturer: National Semiconductor; PackageTopMarking: ZXYTT*L231B; PowerWise: N; CompType: MiscPower; High-Reliability: Y; DatasheetVersion: Feb-2010; PackageVersion: revA, Oct-2003; PackageReference: SDA10A; PackageDescription: LLP, Plastic, Dual, 3 x 3 x 0.8mm Body, 10 Lead, 0.5mm Pitch, No Pullback; RoHS: Y; PinCount: 10; ComponentLink1Description: Manufacturer URL; ComponentLink1URL: http://www.national.com/; ComponentLink2Description: LM27341 Datasheet; ComponentLink2URL: http://www.national.com/ds/LM/LM27341.pdf; ComponentLink3Description: LM27341 Web Page; ComponentLink3URL: http://www.national.com/pf/LM/LM27341.html; ComponentLink4Description: SDA10A Package Page; ComponentLink4URL: http://www.national.com/packaging/folders/sda10a.html
footprint SDA10A (SON, 10-Leads, Body 3x3 mm, Pitch 0.5mm, NSC Recommended)
pins: 1 SW (power), 2 SW (power), 3 BOOST, 4 EN (in), 5 SYNC (in), 6 FB (in), 7 GND (power), 8 AVIN (power), 9 PVIN (power), 10 PVIN (power), 11 DAP (power)

## LM27342MY
designator U?
2MHz 2A - Wide Input Range Buck Regulator with Frequency Synchronization, 10-pin eMSOP; PartNumber: LM27342MY; Manufacturer: National Semiconductor; PackageTopMarking: ZXTT*SSCA; PowerWise: N; CompType: MiscPower; High-Reliability: Y; DatasheetVersion: Feb-2010; PackageVersion: revA, May-2006; PackageReference: MUC10A; PackageDescription: Molded Mini-SO, Exposed Pad .118 x .118 x .034in Body, 10 Lead, .0197in Pitch; RoHS: Y; PinCount: 10; Code_JEDEC: MO-187-BAT; ComponentLink1Description: Manufacturer URL; ComponentLink1URL: http://www.national.com/; ComponentLink2Description: LM27341 Datasheet; ComponentLink2URL: http://www.national.com/ds/LM/LM27341.pdf; ComponentLink3Description: LM27342 Web Page; ComponentLink3URL: http://www.national.com/pf/LM/LM27342.html; ComponentLink4Description: MUC10A Package Page; ComponentLink4URL: http://www.national.com/packaging/folders/muc10a.html
footprint MUC10A_N (TSSOP, 10-Leads, Body 3x3mm, Pitch 0.5mm, Exposed Pad, IPC Medium Density)
footprint MUC10A_L (TSSOP, 10-Leads, Body 3x3mm, Pitch 0.5mm, Exposed Pad, IPC High Density)
footprint MUC10A_M (TSSOP, 10-Leads, Body 3x3mm, Pitch 0.5mm, Exposed Pad, IPC Low Density)
pins: 1 SW (power), 2 SW (power), 3 BOOST, 4 EN (in), 5 SYNC (in), 6 FB (in), 7 GND (power), 8 AVIN (power), 9 PVIN (power), 10 PVIN (power), 11 DAP (power)

## LM27342MY/NOPB
designator U?
2A - Wide Input Range Buck Regulator with Frequency Synchronization, 10-pin eMSOP, Pb-Free; PartNumber: LM27342MY/NOPB; Manufacturer: National Semiconductor; PackageTopMarking: ZXTT*SSCA; PowerWise: N; CompType: MiscPower; High-Reliability: Y; DatasheetVersion: Dec-2008; PackageVersion: revA, May-2006; PackageReference: MUC10A; PackageDescription: Molded Mini-SO, Exposed Pad .118 x .118 x .034in Body, 10 Lead, .0197in Pitch; RoHS: Y; PinCount: 10; Code_JEDEC: MO-187-BAT; ComponentLink1Description: Manufacturer URL; ComponentLink1URL: http://www.national.com/; ComponentLink2Description: LM27342 Datasheet; ComponentLink2URL: http://www.national.com/ds/LM/LM27342.pdf; ComponentLink3Description: LM27342 Web Page; ComponentLink3URL: http://www.national.com/pf/LM/LM27342.html; ComponentLink4Description: MUC10A Package Page; ComponentLink4URL: http://www.national.com/packaging/folders/muc10a.html
footprint MUC10A_N (TSSOP, 10-Leads, Body 3x3mm, Pitch 0.5mm, Exposed Pad, IPC Medium Density)
footprint MUC10A_L (TSSOP, 10-Leads, Body 3x3mm, Pitch 0.5mm, Exposed Pad, IPC High Density)
footprint MUC10A_M (TSSOP, 10-Leads, Body 3x3mm, Pitch 0.5mm, Exposed Pad, IPC Low Density)
pins: 1 SW (power), 2 SW (power), 3 BOOST, 4 EN (in), 5 SYNC (in), 6 FB (in), 7 GND (power), 8 AVIN (power), 9 PVIN (power), 10 PVIN (power), 11 DAP (power)

## LM27342MYX/NOPB
designator U?
2A - Wide Input Range Buck Regulator with Frequency Synchronization, 10-pin eMSOP, Pb-Free; PartNumber: LM27342MYX/NOPB; Manufacturer: National Semiconductor; PackageTopMarking: ZXTT*SSCA; PowerWise: N; CompType: MiscPower; High-Reliability: Y; DatasheetVersion: Dec-2008; PackageVersion: revA, May-2006; PackageReference: MUC10A; PackageDescription: Molded Mini-SO, Exposed Pad .118 x .118 x .034in Body, 10 Lead, .0197in Pitch; RoHS: Y; PinCount: 10; Code_JEDEC: MO-187-BAT; ComponentLink1Description: Manufacturer URL; ComponentLink1URL: http://www.national.com/; ComponentLink2Description: LM27342 Datasheet; ComponentLink2URL: http://www.national.com/ds/LM/LM27342.pdf; ComponentLink3Description: LM27342 Web Page; ComponentLink3URL: http://www.national.com/pf/LM/LM27342.html; ComponentLink4Description: MUC10A Package Page; ComponentLink4URL: http://www.national.com/packaging/folders/muc10a.html
footprint MUC10A_N (TSSOP, 10-Leads, Body 3x3mm, Pitch 0.5mm, Exposed Pad, IPC Medium Density)
footprint MUC10A_L (TSSOP, 10-Leads, Body 3x3mm, Pitch 0.5mm, Exposed Pad, IPC High Density)
footprint MUC10A_M (TSSOP, 10-Leads, Body 3x3mm, Pitch 0.5mm, Exposed Pad, IPC Low Density)
pins: 1 SW (power), 2 SW (power), 3 BOOST, 4 EN (in), 5 SYNC (in), 6 FB (in), 7 GND (power), 8 AVIN (power), 9 PVIN (power), 10 PVIN (power), 11 DAP (power)

## LM27342QMY/NOPB
designator U?
2A - Wide Input Range Buck Regulator with Frequency Synchronization, 10-pin eMSOP, Pb-Free; PartNumber: LM27342QMY/NOPB; Manufacturer: National Semiconductor; PackageTopMarking: ZXTT*SSJA; PowerWise: N; CompType: MiscPower; High-Reliability: Y; DatasheetVersion: Dec-2008; PackageVersion: revA, May-2006; PackageReference: MUC10A; PackageDescription: Molded Mini-SO, Exposed Pad .118 x .118 x .034in Body, 10 Lead, .0197in Pitch; RoHS: Y; PinCount: 10; Code_JEDEC: MO-187-BAT; ComponentLink1Description: Manufacturer URL; ComponentLink1URL: http://www.national.com/; ComponentLink2Description: LM27342 Datasheet; ComponentLink2URL: http://www.national.com/ds/LM/LM27342.pdf; ComponentLink3Description: LM27342 Web Page; ComponentLink3URL: http://www.national.com/pf/LM/LM27342.html; ComponentLink4Description: MUC10A Package Page; ComponentLink4URL: http://www.national.com/packaging/folders/muc10a.html
footprint MUC10A_N (TSSOP, 10-Leads, Body 3x3mm, Pitch 0.5mm, Exposed Pad, IPC Medium Density)
footprint MUC10A_L (TSSOP, 10-Leads, Body 3x3mm, Pitch 0.5mm, Exposed Pad, IPC High Density)
footprint MUC10A_M (TSSOP, 10-Leads, Body 3x3mm, Pitch 0.5mm, Exposed Pad, IPC Low Density)
pins: 1 SW (power), 2 SW (power), 3 BOOST, 4 EN (in), 5 SYNC (in), 6 FB (in), 7 GND (power), 8 AVIN (power), 9 PVIN (power), 10 PVIN (power), 11 DAP (power)

## LM27342QMYX/NOPB
designator U?
2A - Wide Input Range Buck Regulator with Frequency Synchronization, 10-pin eMSOP, Pb-Free; PartNumber: LM27342QMYX/NOPB; Manufacturer: National Semiconductor; PackageTopMarking: ZXTT*SSJA; PowerWise: N; CompType: MiscPower; High-Reliability: Y; DatasheetVersion: Dec-2008; PackageVersion: revA, May-2006; PackageReference: MUC10A; PackageDescription: Molded Mini-SO, Exposed Pad .118 x .118 x .034in Body, 10 Lead, .0197in Pitch; RoHS: Y; PinCount: 10; Code_JEDEC: MO-187-BAT; ComponentLink1Description: Manufacturer URL; ComponentLink1URL: http://www.national.com/; ComponentLink2Description: LM27342 Datasheet; ComponentLink2URL: http://www.national.com/ds/LM/LM27342.pdf; ComponentLink3Description: LM27342 Web Page; ComponentLink3URL: http://www.national.com/pf/LM/LM27342.html; ComponentLink4Description: MUC10A Package Page; ComponentLink4URL: http://www.national.com/packaging/folders/muc10a.html
footprint MUC10A_N (TSSOP, 10-Leads, Body 3x3mm, Pitch 0.5mm, Exposed Pad, IPC Medium Density)
footprint MUC10A_L (TSSOP, 10-Leads, Body 3x3mm, Pitch 0.5mm, Exposed Pad, IPC High Density)
footprint MUC10A_M (TSSOP, 10-Leads, Body 3x3mm, Pitch 0.5mm, Exposed Pad, IPC Low Density)
pins: 1 SW (power), 2 SW (power), 3 BOOST, 4 EN (in), 5 SYNC (in), 6 FB (in), 7 GND (power), 8 AVIN (power), 9 PVIN (power), 10 PVIN (power), 11 DAP (power)